# Altium schematic symbol library CONN 2POS.SchLib: 1 symbol
Pins are listed as number, name and electrical type; pins without a type are passive.

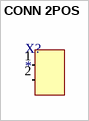
[diagram p0: symbol CONN 2POS]

## CONN 2POS
designator X?
2 Pin Molex Connector; MfrPartNo: *
pins: 1, 2